# EAGLE library part 75757-4160 (library 75757-4160)
Automotive Connectors Source: Datasheet <https://www.molex.com/pdm_docs/sd/757574160_sd.pdf>
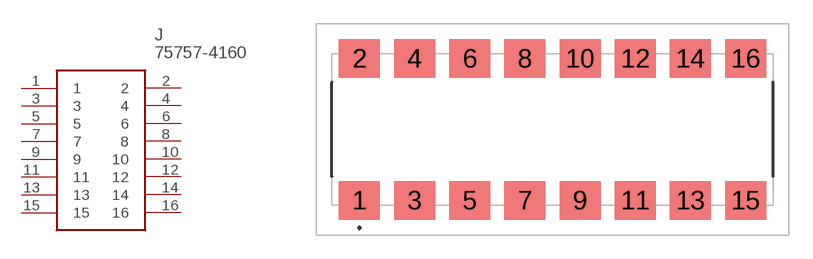
[diagram p0: symbol with the pads of 757574160; footprint 757574160]

Designator prefix J

## 75757-4160 (Description: Automotive Connectors; Height: 21.53mm; Manufacturer_Name: Molex; Manufacturer_Part_Number: 75757-4160)  [757574160]
1  1
2  2
3  3
4  4
5  5
6  6
7  7
8  8
9  9
10  10
11  11
12  12
13  13
14  14
15  15
16  16

## Footprint 757574160 (pad centres in mm)
75757-4160-1
smd 2.6 x 2.43: 1 -12.25,-4.5; 2 -12.25,4.5; 3 -8.75,-4.5; 4 -8.75,4.5; 5 -5.25,-4.5; 6 -5.25,4.5; 7 -1.75,-4.5; 8 -1.75,4.5; 9 1.75,-4.5; 10 1.75,4.5; 11 5.25,-4.5; 12 5.25,4.5; 13 8.75,-4.5; 14 8.75,4.5; 15 12.25,-4.5; 16 12.25,4.5